# Altium schematic symbol library SiSH129DN.Schlib: 1 symbol
Pins are listed as number, name and electrical type; pins without a type are passive.

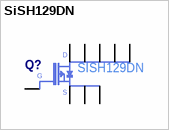
[diagram p0: symbol SiSH129DN]

## SiSH129DN
designator Q?, comment Manufacturer Part Number: SISH129DN  (hidden comment: SiSS27ADN)
pins: 1 S, 2 S, 3 S, 4 G, 5 D, 6 D, 7 D, 8 D, 9 D